# Altium schematic symbol library CN_MODJACK_8P.SchLib: 2 symbols
Pins are listed as number, name and electrical type; pins without a type are passive.

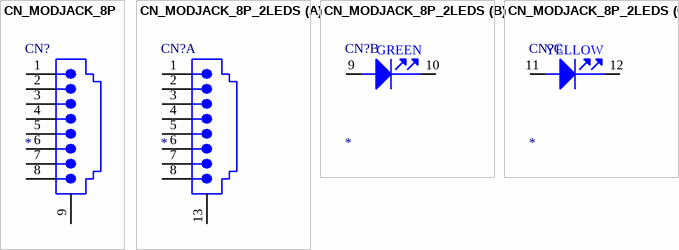
[diagram p0: symbols CN_MODJACK_8P to CN_MODJACK_8P_2LEDS]

## CN_MODJACK_8P
designator CN?
pins: 1, 2, 3, 4, 5, 6, 7, 8, 9

## CN_MODJACK_8P_2LEDS
designator CN?
part A pins: 1, 2, 3, 4, 5, 6, 7, 8, 13
part B pins: 9 A, 10 C
part C pins: 11 A, 12 C
part B text: GREEN
part C text: YELLOW